# Altium footprint library hole.PcbLib: 8 footprints
Each footprint in its own frame and in the unit in brackets; x right, y up, seen from the top. Pads: shape width x height; smd on the part's side, far side on the other; paste and mask are expansions set on the pad; w line width, h text height; cw(c..) or ccw(c..) is an arc to the next point about the centre after c.
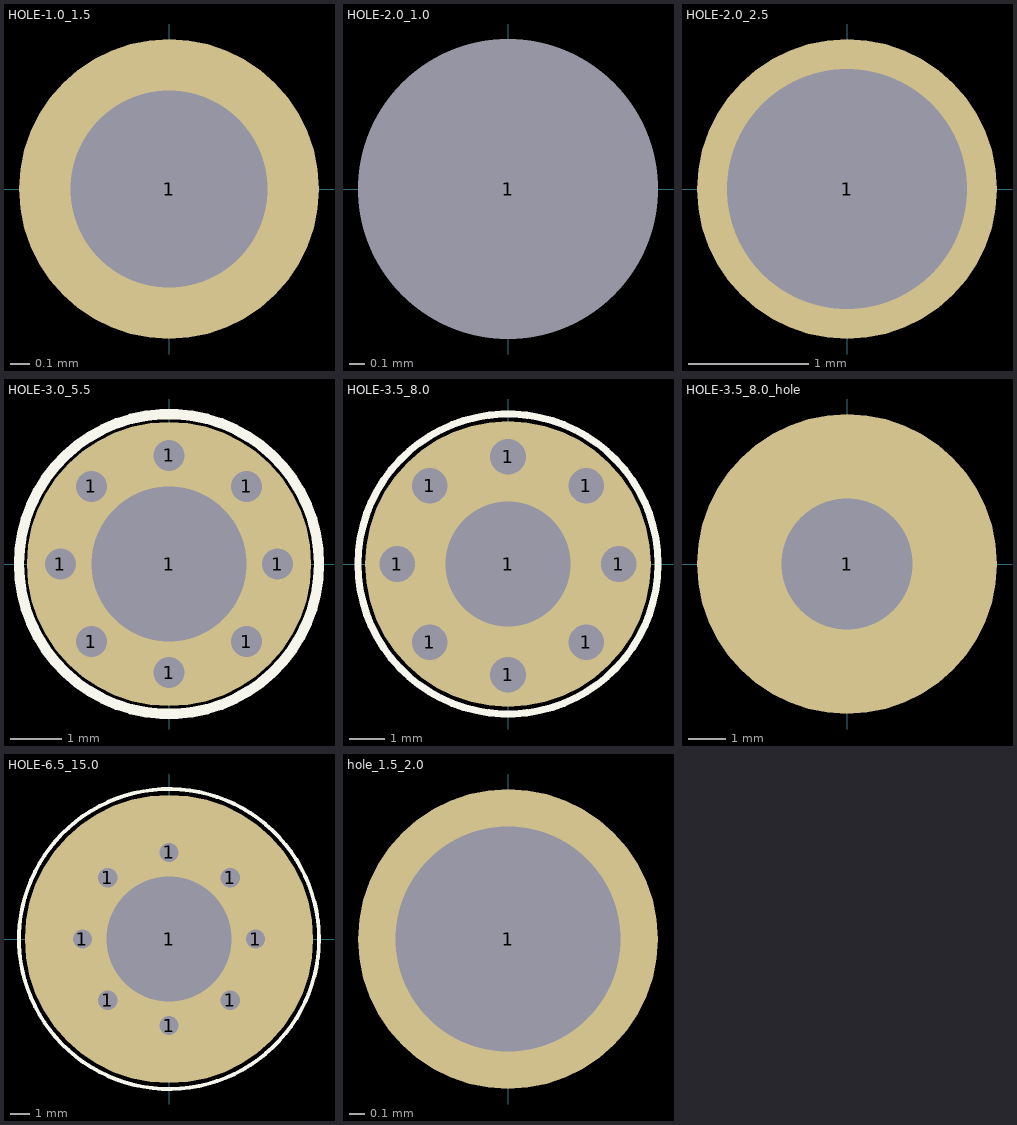
[diagram p0: the footprints below, top view; thin cyan lines are the x and y axes]

## HOLE-1.0_1.5 [mil]
pads (1):
  round 60 hole 39.37: 1(0,0)

## HOLE-2.0_1.0 [mm]
pads (1):
  round 1 hole 2: 1(0,0)

## HOLE-2.0_2.5 [mm]
pads (1):
  round 2.5 hole 2: 1(0,0)

## HOLE-3.0_5.5 [mm]
height 5.96
pads (9):
  round 0.8 hole 0.6: 1(-2.1,0) 1(-1.5,-1.5) 1(-1.5,1.5) 1(0,-2.1) 1(0,2.1) 1(1.5,-1.5) 1(1.5,1.5) 1(2.1,0)
  round 5.5 hole 3: 1(0,0)
Top Overlay:
  circle w0.2: c0,0 r2.9

## HOLE-3.5_8.0 [mm]
height 5.96
pads (9):
  round 1.5 hole 1: 1(-3.1,0) 1(-2.192,-2.192) 1(-2.192,2.192) 1(0,-3.1) 1(0,3) 1(2.192,-2.192) 1(2.192,2.192) 1(3.1,0)
  round 8 hole 3.5: 1(0,0)
Top Overlay:
  circle w0.2: c0,0 r4.2

## HOLE-3.5_8.0_hole [mm]
pads (1):
  round 8 hole 3.5: 1(0,0)

## HOLE-6.5_15.0 [mm]
pads (9):
  round 1.5 hole 1: 1(-4.5,0) 1(-3.182,-3.182) 1(-3.182,3.182) 1(0,-4.5) 1(0,4.5) 1(3.182,-3.182) 1(3.182,3.182) 1(4.5,0)
  round 15 hole 6.5: 1(0,0)
Top Overlay:
  circle w0.2: c0,0 r7.8

## hole_1.5_2.0 [mm] "pad_hole_1.5-2.0"
pads (1):
  round 2 hole 1.5: 1(0,3)